# Altium integrated library TI_Logic_Flip-Flop,Latch,Register.IntLib: 2598 symbols (part 13 of 122)
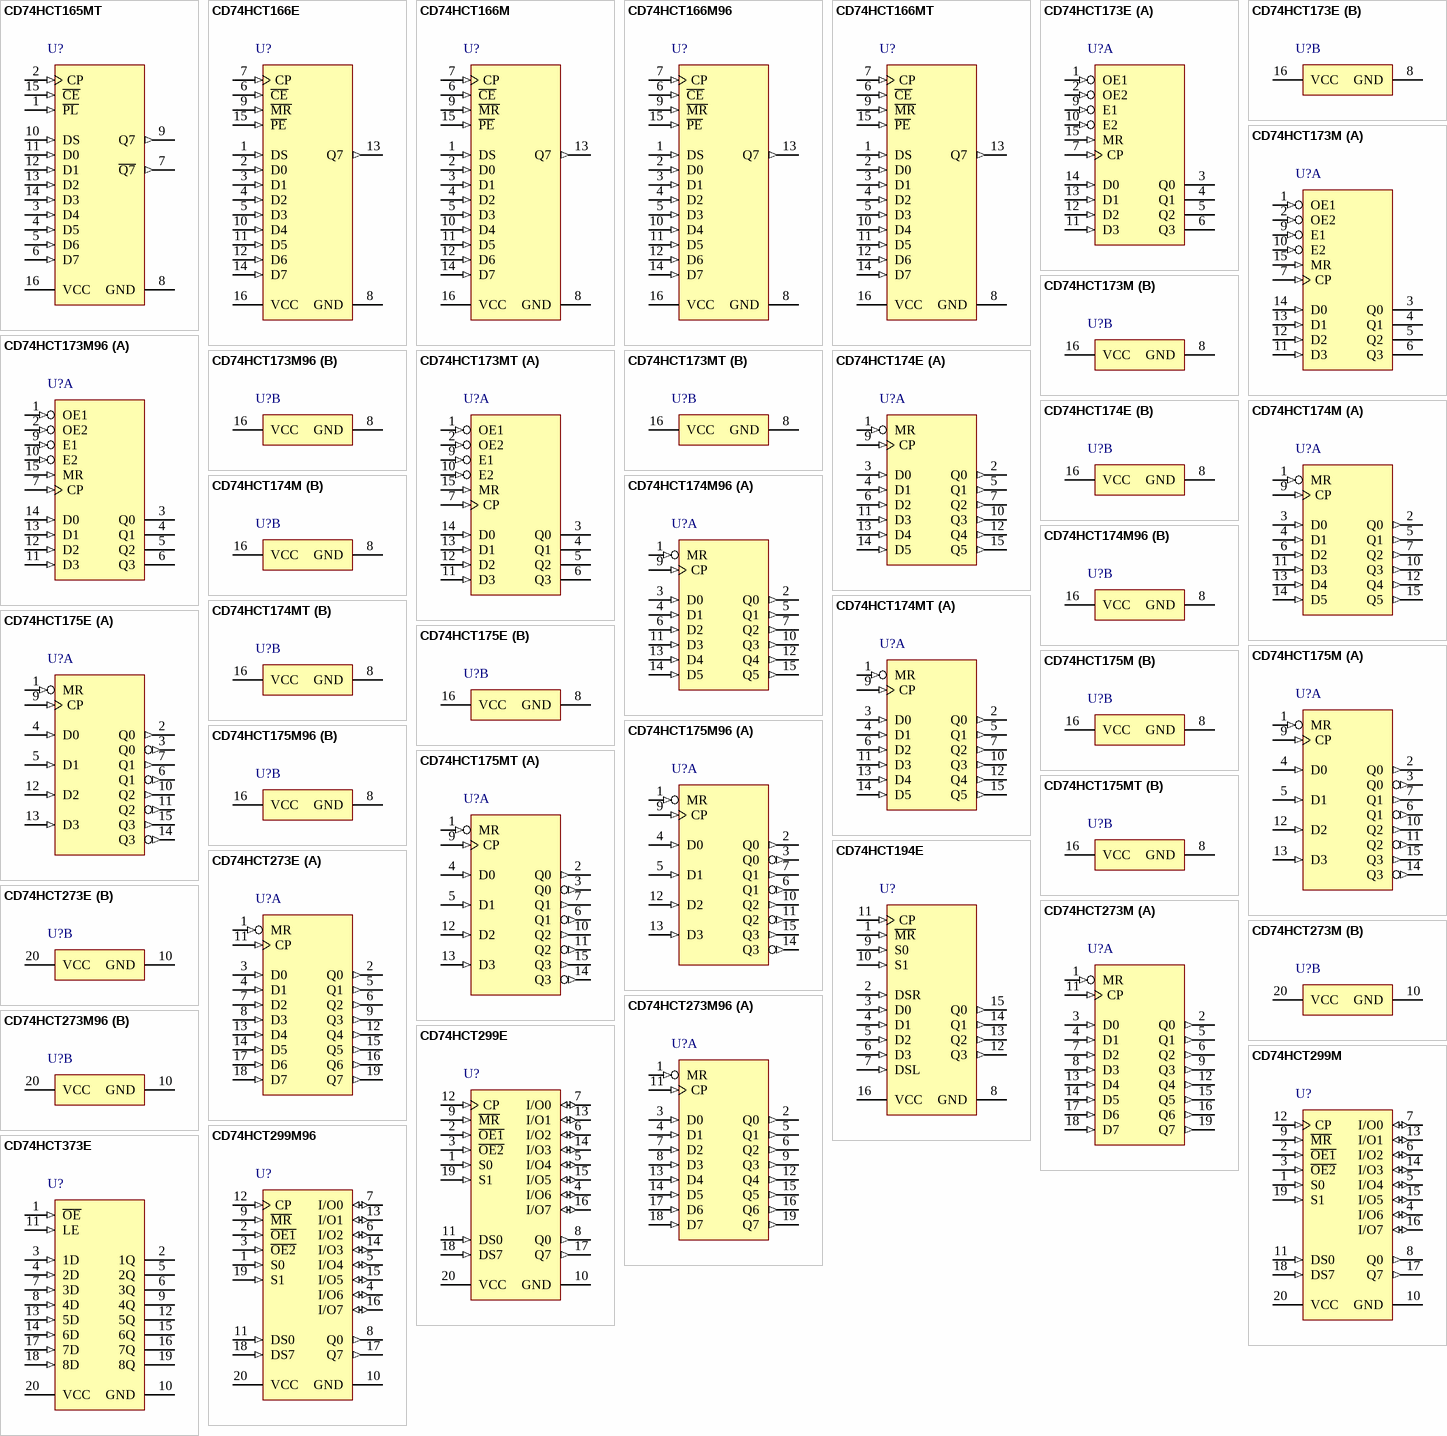
[diagram p151: symbols CD74HCT165MT to CD74HCT373E]

## CD74HCT175E
designator U?
High Speed CMOS Logic Quad D-Type Flip-Flop with Reset, N0016A, TUBE; Generic Part Number: CD74HCT175; Manufacturer: Texas Instruments; PartNumber: CD74HCT175E; VCC(Min)(V): 4.5; VCC(Max)(V): 5.5; ICC @ Nom Voltage(Max)(mA): 0.08; Input Type: TTL; Bits(#): 4; F @ Nom Voltage(Max)(Mhz): 25; Rating: Catalog; Technology Family: HCT; Voltage(Nom)(V): 5; Schmitt Trigger: No; Output Drive (IOL/IOH)(Max)(mA): 4/-4; Output Logic: Inverted,Non-inverted; tpd @ Nom Voltage(Max)(ns): 41; DatasheetVersion: SCHS160C; PackageReference: N0016A; Supplier 1: Digi-Key; Supplier Part Number 1: 296-2101-5-ND; Supplier 2: Farnell; Supplier Part Number 2: 1105984; Supplier 3: Newark; Supplier Part Number 3: 60K5150; Supplier 4: Mouser; Supplier Part Number 4: 595-CD74HCT175E; Output Type: CMOS; Operating Temperature Range(C): -55 to 125; 3-State Output: No; Code_JEDEC: MS-001; ComponentLink1Description: Manufacturer URL; ComponentLink1URL: http://www.ti.com/; ComponentLink2Description: Datasheet; ComponentLink2URL: http://www.ti.com/lit/ds/symlink/cd74hct175.pdf; ComponentLink3Description: Package Specification; ComponentLink3URL: http://www.ti.com/lit/ml/mpdi002c/mpdi002c.pdf
footprint N0016A (DIP, 16-Leads, Body 19.7x6.6mm, Pitch 2.54mm)
part A pins: 1 MR (in), 2 Q0 (out), 3 Q0 (out), 4 D0 (in), 5 D1 (in), 6 Q1 (out), 7 Q1 (out), 9 CP (in), 10 Q2 (out), 11 Q2 (out), 12 D2 (in), 13 D3 (in), 14 Q3 (out), 15 Q3 (out)
part B pins: 8 GND (power), 16 VCC (power)

## CD74HCT175M
designator U?
High Speed CMOS Logic Quad D-Type Flip-Flop with Reset, D0016A, TUBE; Generic Part Number: CD74HCT175; Manufacturer: Texas Instruments; PartNumber: CD74HCT175M; VCC(Min)(V): 4.5; VCC(Max)(V): 5.5; ICC @ Nom Voltage(Max)(mA): 0.08; Input Type: TTL; Bits(#): 4; F @ Nom Voltage(Max)(Mhz): 25; Rating: Catalog; Technology Family: HCT; Voltage(Nom)(V): 5; Schmitt Trigger: No; Output Drive (IOL/IOH)(Max)(mA): 4/-4; Output Logic: Inverted,Non-inverted; tpd @ Nom Voltage(Max)(ns): 41; DatasheetVersion: SCHS160C; PackageReference: D0016A; Supplier 1: Digi-Key; Supplier Part Number 1: 296-26020-5-ND; Supplier 2: Newark; Supplier Part Number 2: 66F5433; Supplier 3: Mouser; Supplier Part Number 3: 595-CD74HCT175M; Output Type: CMOS; Operating Temperature Range(C): -55 to 125; 3-State Output: No; Code_JEDEC: MS-012 variation AC; ComponentLink1Description: Manufacturer URL; ComponentLink1URL: http://www.ti.com/; ComponentLink2Description: Datasheet; ComponentLink2URL: http://www.ti.com/lit/ds/symlink/cd74hct175.pdf; ComponentLink3Description: Package Specification; ComponentLink3URL: http://www.ti.com/lit/ml/mpds178g/mpds178g.pdf
footprint D0016A_N (SOIC, 16-Leads, Body 10x4mm, Pitch 1.27mm, IPC Medium Density)
footprint D0016A_M (SOIC, 16-Leads, Body 10x4mm, Pitch 1.27mm, IPC Low Density)
footprint D0016A_L (SOIC, 16-Leads, Body 10x4mm, Pitch 1.27mm, IPC High Density)
part A pins: 1 MR (in), 2 Q0 (out), 3 Q0 (out), 4 D0 (in), 5 D1 (in), 6 Q1 (out), 7 Q1 (out), 9 CP (in), 10 Q2 (out), 11 Q2 (out), 12 D2 (in), 13 D3 (in), 14 Q3 (out), 15 Q3 (out)
part B pins: 8 GND (power), 16 VCC (power)

## CD74HCT175M96
designator U?
High Speed CMOS Logic Quad D-Type Flip-Flop with Reset, D0016A, LARGE T&R; Generic Part Number: CD74HCT175; Manufacturer: Texas Instruments; PartNumber: CD74HCT175M96; VCC(Min)(V): 4.5; VCC(Max)(V): 5.5; ICC @ Nom Voltage(Max)(mA): 0.08; Input Type: TTL; Bits(#): 4; F @ Nom Voltage(Max)(Mhz): 25; Rating: Catalog; Technology Family: HCT; Voltage(Nom)(V): 5; Schmitt Trigger: No; Output Drive (IOL/IOH)(Max)(mA): 4/-4; Output Logic: Inverted,Non-inverted; tpd @ Nom Voltage(Max)(ns): 41; DatasheetVersion: SCHS160C; PackageReference: D0016A; Supplier 1: Digi-Key; Supplier Part Number 1: 296-12837-2-ND; Supplier 2: Digi-Key; Supplier Part Number 2: 296-12837-1-ND; Supplier 3: Digi-Key; Supplier Part Number 3: 296-12837-6-ND; Supplier 4: Mouser; Supplier Part Number 4: 595-CD74HCT175M96; Output Type: CMOS; Operating Temperature Range(C): -55 to 125; 3-State Output: No; Code_JEDEC: MS-012 variation AC; ComponentLink1Description: Manufacturer URL; ComponentLink1URL: http://www.ti.com/; ComponentLink2Description: Datasheet; ComponentLink2URL: http://www.ti.com/lit/ds/symlink/cd74hct175.pdf; ComponentLink3Description: Package Specification; ComponentLink3URL: http://www.ti.com/lit/ml/mpds178g/mpds178g.pdf
footprint D0016A_N (SOIC, 16-Leads, Body 10x4mm, Pitch 1.27mm, IPC Medium Density)
footprint D0016A_M (SOIC, 16-Leads, Body 10x4mm, Pitch 1.27mm, IPC Low Density)
footprint D0016A_L (SOIC, 16-Leads, Body 10x4mm, Pitch 1.27mm, IPC High Density)
part A pins: 1 MR (in), 2 Q0 (out), 3 Q0 (out), 4 D0 (in), 5 D1 (in), 6 Q1 (out), 7 Q1 (out), 9 CP (in), 10 Q2 (out), 11 Q2 (out), 12 D2 (in), 13 D3 (in), 14 Q3 (out), 15 Q3 (out)
part B pins: 8 GND (power), 16 VCC (power)

## CD74HCT175MT
designator U?
High Speed CMOS Logic Quad D-Type Flip-Flop with Reset, D0016A, SMALL T&R; Generic Part Number: CD74HCT175; Manufacturer: Texas Instruments; PartNumber: CD74HCT175MT; VCC(Min)(V): 4.5; VCC(Max)(V): 5.5; ICC @ Nom Voltage(Max)(mA): 0.08; Input Type: TTL; Bits(#): 4; F @ Nom Voltage(Max)(Mhz): 25; Rating: Catalog; Technology Family: HCT; Voltage(Nom)(V): 5; Schmitt Trigger: No; Output Drive (IOL/IOH)(Max)(mA): 4/-4; Output Logic: Inverted,Non-inverted; tpd @ Nom Voltage(Max)(ns): 41; DatasheetVersion: SCHS160C; PackageReference: D0016A; Supplier 1: Digi-Key; Supplier Part Number 1: CD74HCT175MT-ND; Supplier 2: Farnell; Supplier Part Number 2: 2406867; Supplier 3: Newark; Supplier Part Number 3: 45Y4618; Supplier 4: Mouser; Supplier Part Number 4: 595-CD74HCT175MT; Output Type: CMOS; Operating Temperature Range(C): -55 to 125; 3-State Output: No; Code_JEDEC: MS-012 variation AC; ComponentLink1Description: Manufacturer URL; ComponentLink1URL: http://www.ti.com/; ComponentLink2Description: Datasheet; ComponentLink2URL: http://www.ti.com/lit/ds/symlink/cd74hct175.pdf; ComponentLink3Description: Package Specification; ComponentLink3URL: http://www.ti.com/lit/ml/mpds178g/mpds178g.pdf
footprint D0016A_N (SOIC, 16-Leads, Body 10x4mm, Pitch 1.27mm, IPC Medium Density)
footprint D0016A_M (SOIC, 16-Leads, Body 10x4mm, Pitch 1.27mm, IPC Low Density)
footprint D0016A_L (SOIC, 16-Leads, Body 10x4mm, Pitch 1.27mm, IPC High Density)
part A pins: 1 MR (in), 2 Q0 (out), 3 Q0 (out), 4 D0 (in), 5 D1 (in), 6 Q1 (out), 7 Q1 (out), 9 CP (in), 10 Q2 (out), 11 Q2 (out), 12 D2 (in), 13 D3 (in), 14 Q3 (out), 15 Q3 (out)
part B pins: 8 GND (power), 16 VCC (power)

## CD74HCT194E
designator U?
High Speed CMOS Logic 4-Bit Bidirectional Universal Shift Register, N0016A, TUBE; Generic Part Number: CD74HCT194; Manufacturer: Texas Instruments; PartNumber: CD74HCT194E; Technology Family: HCT; VCC(Min)(V): 4.5; VCC(Max)(V): 5.5; Voltage(Nom)(V): 5; F @ Nom Voltage(Max)(Mhz): 25; ICC @ Nom Voltage(Max)(mA): 0.08; tpd @ Nom Voltage(Max)(ns): 46; Output Drive (IOL/IOH)(Max)(mA): 4/-4; Input Type: TTL; 3-State Output: No; Rating: Catalog; Bits: 8; DatasheetVersion: SCHS164G; PackageReference: N0016A; Output Type: CMOS; Operating Temperature Range(C): -55 to 125; Code_JEDEC: MS-001; ComponentLink1Description: Manufacturer URL; ComponentLink1URL: http://www.ti.com/; ComponentLink2Description: Datasheet; ComponentLink2URL: http://www.ti.com/lit/ds/symlink/cd74hct194.pdf; ComponentLink3Description: Package Specification; ComponentLink3URL: http://www.ti.com/lit/ml/mpdi002c/mpdi002c.pdf
footprint N0016A (DIP, 16-Leads, Body 19.7x6.6mm, Pitch 2.54mm)
pins: 1 ~{MR} (in), 2 DSR (in), 3 D0 (in), 4 D1 (in), 5 D2 (in), 6 D3 (in), 7 DSL (in), 8 GND (power), 9 S0 (in), 10 S1 (in), 11 CP (in), 12 Q3 (out), 13 Q2 (out), 14 Q1 (out), 15 Q0 (out), 16 VCC (power)

## CD74HCT273E
designator U?
High Speed CMOS Logic Octal D-Type Flip-Flop with Reset, N0020A, TUBE; Generic Part Number: CD74HCT273; Manufacturer: Texas Instruments; PartNumber: CD74HCT273E; VCC(Min)(V): 4.5; VCC(Max)(V): 5.5; ICC @ Nom Voltage(Max)(mA): 0.08; Input Type: TTL; Bits(#): 8; F @ Nom Voltage(Max)(Mhz): 25; Rating: Catalog; Technology Family: HCT; Voltage(Nom)(V): 5; Schmitt Trigger: No; Output Drive (IOL/IOH)(Max)(mA): 4/-4; Output Logic: Non-inverted; tpd @ Nom Voltage(Max)(ns): 38; DatasheetVersion: SCHS174B; PackageReference: N0020A; Supplier 1: Digi-Key; Supplier Part Number 1: 296-2110-5-ND; Supplier 2: Farnell; Supplier Part Number 2: 1105987; Supplier 3: Newark; Supplier Part Number 3: 25M8601; Supplier 4: Mouser; Supplier Part Number 4: 595-CD74HCT273E; Output Type: CMOS; Operating Temperature Range(C): -55 to 125; 3-State Output: No; Code_JEDEC: MS-001; ComponentLink1Description: Manufacturer URL; ComponentLink1URL: http://www.ti.com/; ComponentLink2Description: Datasheet; ComponentLink2URL: http://www.ti.com/lit/ds/symlink/cd74hct273.pdf; ComponentLink3Description: Package Specification; ComponentLink3URL: http://www.ti.com/lit/ml/mpdi002c/mpdi002c.pdf
footprint N0020A (DIP, 20-Leads, Body 26.9x6.6mm, Pitch 2.54mm)
part A pins: 1 MR (in), 2 Q0 (out), 3 D0 (in), 4 D1 (in), 5 Q1 (out), 6 Q2 (out), 7 D2 (in), 8 D3 (in), 9 Q3 (out), 11 CP (in), 12 Q4 (out), 13 D4 (in), 14 D5 (in), 15 Q5 (out), 16 Q6 (out), 17 D6 (in), 18 D7 (in), 19 Q7 (out)
part B pins: 10 GND (power), 20 VCC (power)

## CD74HCT273M
designator U?
High Speed CMOS Logic Octal D-Type Flip-Flop with Reset, DW0020A, TUBE; Generic Part Number: CD74HCT273; Manufacturer: Texas Instruments; PartNumber: CD74HCT273M; VCC(Min)(V): 4.5; VCC(Max)(V): 5.5; ICC @ Nom Voltage(Max)(mA): 0.08; Input Type: TTL; Bits(#): 8; F @ Nom Voltage(Max)(Mhz): 25; Rating: Catalog; Technology Family: HCT; Voltage(Nom)(V): 5; Schmitt Trigger: No; Output Drive (IOL/IOH)(Max)(mA): 4/-4; Output Logic: Non-inverted; tpd @ Nom Voltage(Max)(ns): 38; DatasheetVersion: SCHS174B; PackageReference: DW0020A; Supplier 1: Digi-Key; Supplier Part Number 1: 296-12841-5-ND; Supplier 2: Farnell; Supplier Part Number 2: 1103142; Supplier 3: Newark; Supplier Part Number 3: 66F5474; Supplier 4: Mouser; Supplier Part Number 4: 595-CD74HCT273M; Output Type: CMOS; Operating Temperature Range(C): -55 to 125; 3-State Output: No; Code_JEDEC: MS-013; ComponentLink1Description: Manufacturer URL; ComponentLink1URL: http://www.ti.com/; ComponentLink2Description: Datasheet; ComponentLink2URL: http://www.ti.com/lit/ds/symlink/cd74hct273.pdf; ComponentLink3Description: Package Specification; ComponentLink3URL: http://www.ti.com/lit/ml/mpds173a/mpds173a.pdf
footprint DW0020A_N (SOIC, 20-Leads, Body 13x7.6mm, Pitch 1.27mm, IPC Medium Density)
footprint DW0020A_M (SOIC, 20-Leads, Body 13x7.6mm, Pitch 1.27mm, IPC Low Density)
footprint DW0020A_L (SOIC, 20-Leads, Body 13x7.6mm, Pitch 1.27mm, IPC High Density)
part A pins: 1 MR (in), 2 Q0 (out), 3 D0 (in), 4 D1 (in), 5 Q1 (out), 6 Q2 (out), 7 D2 (in), 8 D3 (in), 9 Q3 (out), 11 CP (in), 12 Q4 (out), 13 D4 (in), 14 D5 (in), 15 Q5 (out), 16 Q6 (out), 17 D6 (in), 18 D7 (in), 19 Q7 (out)
part B pins: 10 GND (power), 20 VCC (power)

## CD74HCT273M96
designator U?
High Speed CMOS Logic Octal D-Type Flip-Flop with Reset, DW0020A, LARGE T&R; Generic Part Number: CD74HCT273; Manufacturer: Texas Instruments; PartNumber: CD74HCT273M96; VCC(Min)(V): 4.5; VCC(Max)(V): 5.5; ICC @ Nom Voltage(Max)(mA): 0.08; Input Type: TTL; Bits(#): 8; F @ Nom Voltage(Max)(Mhz): 25; Rating: Catalog; Technology Family: HCT; Voltage(Nom)(V): 5; Schmitt Trigger: No; Output Drive (IOL/IOH)(Max)(mA): 4/-4; Output Logic: Non-inverted; tpd @ Nom Voltage(Max)(ns): 38; DatasheetVersion: SCHS174B; PackageReference: DW0020A; Supplier 1: Digi-Key; Supplier Part Number 1: 296-14554-2-ND; Supplier 2: Digi-Key; Supplier Part Number 2: 296-14554-1-ND; Supplier 3: Digi-Key; Supplier Part Number 3: 296-14554-6-ND; Supplier 4: Newark; Supplier Part Number 4: 05B6047; Supplier 5: Mouser; Supplier Part Number 5: 595-CD74HCT273M96; Output Type: CMOS; Operating Temperature Range(C): -55 to 125; 3-State Output: No; Code_JEDEC: MS-013; ComponentLink1Description: Manufacturer URL; ComponentLink1URL: http://www.ti.com/; ComponentLink2Description: Datasheet; ComponentLink2URL: http://www.ti.com/lit/ds/symlink/cd74hct273.pdf; ComponentLink3Description: Package Specification; ComponentLink3URL: http://www.ti.com/lit/ml/mpds173a/mpds173a.pdf
footprint DW0020A_N (SOIC, 20-Leads, Body 13x7.6mm, Pitch 1.27mm, IPC Medium Density)
footprint DW0020A_M (SOIC, 20-Leads, Body 13x7.6mm, Pitch 1.27mm, IPC Low Density)
footprint DW0020A_L (SOIC, 20-Leads, Body 13x7.6mm, Pitch 1.27mm, IPC High Density)
part A pins: 1 MR (in), 2 Q0 (out), 3 D0 (in), 4 D1 (in), 5 Q1 (out), 6 Q2 (out), 7 D2 (in), 8 D3 (in), 9 Q3 (out), 11 CP (in), 12 Q4 (out), 13 D4 (in), 14 D5 (in), 15 Q5 (out), 16 Q6 (out), 17 D6 (in), 18 D7 (in), 19 Q7 (out)
part B pins: 10 GND (power), 20 VCC (power)

## CD74HCT299E
designator U?
High Speed CMOS Logic 8-Bit Universal Shift Register with 3-State Outputs, N0020A, TUBE; Generic Part Number: CD74HCT299; Manufacturer: Texas Instruments; PartNumber: CD74HCT299E; Technology Family: HCT; VCC(Min)(V): 4.5; VCC(Max)(V): 5.5; Voltage(Nom)(V): 5; F @ Nom Voltage(Max)(Mhz): 25; ICC @ Nom Voltage(Max)(mA): 0.08; tpd @ Nom Voltage(Max)(ns): 56; Output Drive (IOL/IOH)(Max)(mA): 4/-4; Input Type: TTL; 3-State Output: Yes; Rating: Catalog; Bits: 16; DatasheetVersion: SCHS178C; PackageReference: N0020A; Output Type: CMOS; Operating Temperature Range(C): -55 to 125; Code_JEDEC: MS-001; ComponentLink1Description: Manufacturer URL; ComponentLink1URL: http://www.ti.com/; ComponentLink2Description: Datasheet; ComponentLink2URL: http://www.ti.com/lit/ds/symlink/cd74hct299.pdf; ComponentLink3Description: Package Specification; ComponentLink3URL: http://www.ti.com/lit/ml/mpdi002c/mpdi002c.pdf
footprint N0020A (DIP, 20-Leads, Body 26.9x6.6mm, Pitch 2.54mm)
pins: 1 S0 (in), 2 ~{OE1} (in), 3 ~{OE2} (in), 4 I/O6 (io), 5 I/O4 (io), 6 I/O2 (io), 7 I/O0 (io), 8 Q0 (out), 9 ~{MR} (in), 10 GND (power), 11 DS0 (in), 12 CP (in), 13 I/O1 (io), 14 I/O3 (io), 15 I/O5 (io), 16 I/O7 (io), 17 Q7 (out), 18 DS7 (in), 19 S1 (in), 20 VCC (power)

## CD74HCT299M
designator U?
High Speed CMOS Logic 8-Bit Universal Shift Register with 3-State Outputs, DW0020A, TUBE; Generic Part Number: CD74HCT299; Manufacturer: Texas Instruments; PartNumber: CD74HCT299M; Technology Family: HCT; VCC(Min)(V): 4.5; VCC(Max)(V): 5.5; Voltage(Nom)(V): 5; F @ Nom Voltage(Max)(Mhz): 25; ICC @ Nom Voltage(Max)(mA): 0.08; tpd @ Nom Voltage(Max)(ns): 56; Output Drive (IOL/IOH)(Max)(mA): 4/-4; Input Type: TTL; 3-State Output: Yes; Rating: Catalog; DatasheetVersion: SCHS178C; PackageReference: DW0020A; Output Type: CMOS; Operating Temperature Range(C): -55 to 125; Code_JEDEC: MS-013; ComponentLink1Description: Manufacturer URL; ComponentLink1URL: http://www.ti.com/; ComponentLink2Description: Datasheet; ComponentLink2URL: http://www.ti.com/lit/ds/symlink/cd74hct299.pdf; ComponentLink3Description: Package Specification; ComponentLink3URL: http://www.ti.com/lit/ml/mpds173a/mpds173a.pdf
footprint DW0020A_N (SOIC, 20-Leads, Body 13x7.6mm, Pitch 1.27mm, IPC Medium Density)
footprint DW0020A_M (SOIC, 20-Leads, Body 13x7.6mm, Pitch 1.27mm, IPC Low Density)
footprint DW0020A_L (SOIC, 20-Leads, Body 13x7.6mm, Pitch 1.27mm, IPC High Density)
pins: 1 S0 (in), 2 ~{OE1} (in), 3 ~{OE2} (in), 4 I/O6 (io), 5 I/O4 (io), 6 I/O2 (io), 7 I/O0 (io), 8 Q0 (out), 9 ~{MR} (in), 10 GND (power), 11 DS0 (in), 12 CP (in), 13 I/O1 (io), 14 I/O3 (io), 15 I/O5 (io), 16 I/O7 (io), 17 Q7 (out), 18 DS7 (in), 19 S1 (in), 20 VCC (power)

## CD74HCT299M96
designator U?
High Speed CMOS Logic 8-Bit Universal Shift Register with 3-State Outputs, DW0020A, LARGE T&R; Generic Part Number: CD74HCT299; Manufacturer: Texas Instruments; PartNumber: CD74HCT299M96; Technology Family: HCT; VCC(Min)(V): 4.5; VCC(Max)(V): 5.5; Voltage(Nom)(V): 5; F @ Nom Voltage(Max)(Mhz): 25; ICC @ Nom Voltage(Max)(mA): 0.08; tpd @ Nom Voltage(Max)(ns): 56; Output Drive (IOL/IOH)(Max)(mA): 4/-4; Input Type: TTL; 3-State Output: Yes; Rating: Catalog; DatasheetVersion: SCHS178C; PackageReference: DW0020A; Output Type: CMOS; Operating Temperature Range(C): -55 to 125; Code_JEDEC: MS-013; ComponentLink1Description: Manufacturer URL; ComponentLink1URL: http://www.ti.com/; ComponentLink2Description: Datasheet; ComponentLink2URL: http://www.ti.com/lit/ds/symlink/cd74hct299.pdf; ComponentLink3Description: Package Specification; ComponentLink3URL: http://www.ti.com/lit/ml/mpds173a/mpds173a.pdf
footprint DW0020A_N (SOIC, 20-Leads, Body 13x7.6mm, Pitch 1.27mm, IPC Medium Density)
footprint DW0020A_M (SOIC, 20-Leads, Body 13x7.6mm, Pitch 1.27mm, IPC Low Density)
footprint DW0020A_L (SOIC, 20-Leads, Body 13x7.6mm, Pitch 1.27mm, IPC High Density)
pins: 1 S0 (in), 2 ~{OE1} (in), 3 ~{OE2} (in), 4 I/O6 (io), 5 I/O4 (io), 6 I/O2 (io), 7 I/O0 (io), 8 Q0 (out), 9 ~{MR} (in), 10 GND (power), 11 DS0 (in), 12 CP (in), 13 I/O1 (io), 14 I/O3 (io), 15 I/O5 (io), 16 I/O7 (io), 17 Q7 (out), 18 DS7 (in), 19 S1 (in), 20 VCC (power)

## CD74HCT373E
designator U?
High Speed CMOS Logic Octal Transparent Latches with 3-State Outputs, N0020A, TUBE; Generic Part Number: CD74HCT373; Manufacturer: Texas Instruments; PartNumber: CD74HCT373E; VCC(Min)(V): 4.5; VCC(Max)(V): 5.5; ICC @ Nom Voltage(Max)(mA): 0.08; Input Type: TTL; Bits(#): 8; F @ Nom Voltage(Max)(Mhz): 25; Rating: Catalog; Technology Family: HCT; Voltage(Nom)(V): 5; Schmitt Trigger: No; Output Drive (IOL/IOH)(Max)(mA): 6/-6; Output Logic: Non-inverted; 3-State Output: Yes; tpd @ Nom Voltage(Max)(ns): 40; DatasheetVersion: SCLS453B; PackageReference: N0020A; Supplier 1: Digi-Key; Supplier Part Number 1: 296-2114-5-ND; Supplier 2: Farnell; Supplier Part Number 2: 1105988; Supplier 3: Newark; Supplier Part Number 3: 60K5153; Supplier 4: Mouser; Supplier Part Number 4: 595-CD74HCT373E; Output Type: CMOS; Operating Temperature Range(C): -55 to 125; Code_JEDEC: MS-001; ComponentLink1Description: Manufacturer URL; ComponentLink1URL: http://www.ti.com/; ComponentLink2Description: Datasheet; ComponentLink2URL: http://www.ti.com/lit/ds/symlink/cd74hct373.pdf; ComponentLink3Description: Package Specification; ComponentLink3URL: http://www.ti.com/lit/ml/mpdi002c/mpdi002c.pdf
footprint N0020A (DIP, 20-Leads, Body 26.9x6.6mm, Pitch 2.54mm)
pins: 1 ~{OE} (in) "Output Enable", 2 1Q (hiz) "1Q Output", 3 1D (in) "1D Input", 4 2D (in) "2D Input", 5 2Q (hiz) "2Q Output", 6 3Q (hiz) "3Q Output", 7 3D (in) "3D Input", 8 4D (in) "4D Input", 9 4Q (hiz) "4Q Output", 10 GND (power) "Ground Pin", 11 LE (in) "Latch Enable", 12 5Q (hiz) "5Q Output", 13 5D (in) "5D Input", 14 6D (in) "6D Input", 15 6Q (hiz) "6Q Output", 16 7Q (hiz) "7Q Output", 17 7D (in) "7D Input", 18 8D (in) "8D Input", 19 8Q (hiz) "8Q Output", 20 VCC (power) "Power Pin"

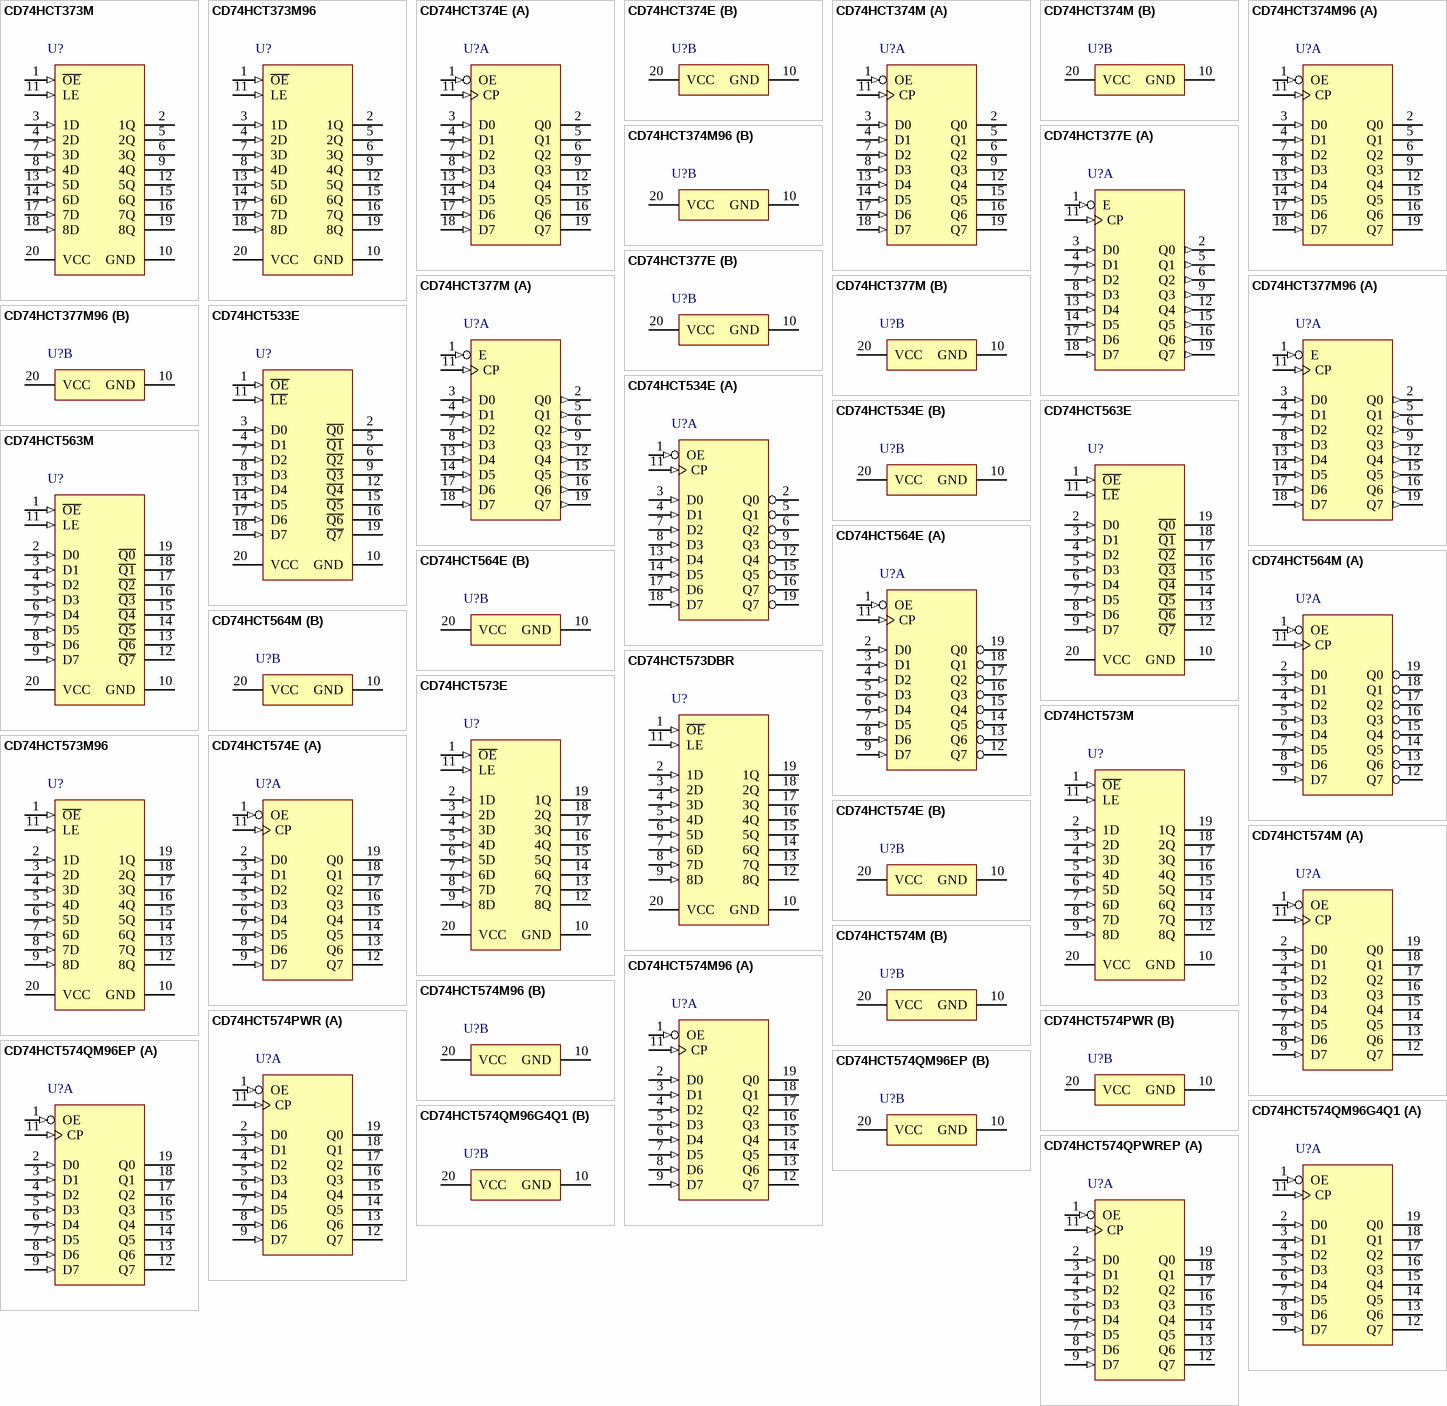
[diagram p18: symbols CD74HCT373M to CD74HCT574QPWREP]

## CD74HCT373M
designator U?
High Speed CMOS Logic Octal Transparent Latches with 3-State Outputs, DW0020A, TUBE; Generic Part Number: CD74HCT373; Manufacturer: Texas Instruments; PartNumber: CD74HCT373M; VCC(Min)(V): 4.5; VCC(Max)(V): 5.5; ICC @ Nom Voltage(Max)(mA): 0.08; Input Type: TTL; Bits(#): 8; F @ Nom Voltage(Max)(Mhz): 25; Rating: Catalog; Technology Family: HCT; Voltage(Nom)(V): 5; Schmitt Trigger: No; Output Drive (IOL/IOH)(Max)(mA): 6/-6; Output Logic: Non-inverted; 3-State Output: Yes; tpd @ Nom Voltage(Max)(ns): 40; DatasheetVersion: SCLS453B; PackageReference: DW0020A; Supplier 1: Digi-Key; Supplier Part Number 1: 296-12843-5-ND; Supplier 2: Farnell; Supplier Part Number 2: 1103144; Supplier 3: Newark; Supplier Part Number 3: 25M8606; Supplier 4: Mouser; Supplier Part Number 4: 595-CD74HCT373M; Output Type: CMOS; Operating Temperature Range(C): -55 to 125; Code_JEDEC: MS-013; ComponentLink1Description: Manufacturer URL; ComponentLink1URL: http://www.ti.com/; ComponentLink2Description: Datasheet; ComponentLink2URL: http://www.ti.com/lit/ds/symlink/cd74hct373.pdf; ComponentLink3Description: Package Specification; ComponentLink3URL: http://www.ti.com/lit/ml/mpds173a/mpds173a.pdf
footprint DW0020A_N (SOIC, 20-Leads, Body 13x7.6mm, Pitch 1.27mm, IPC Medium Density)
footprint DW0020A_M (SOIC, 20-Leads, Body 13x7.6mm, Pitch 1.27mm, IPC Low Density)
footprint DW0020A_L (SOIC, 20-Leads, Body 13x7.6mm, Pitch 1.27mm, IPC High Density)
pins: 1 ~{OE} (in) "Output Enable", 2 1Q (hiz) "1Q Output", 3 1D (in) "1D Input", 4 2D (in) "2D Input", 5 2Q (hiz) "2Q Output", 6 3Q (hiz) "3Q Output", 7 3D (in) "3D Input", 8 4D (in) "4D Input", 9 4Q (hiz) "4Q Output", 10 GND (power) "Ground Pin", 11 LE (in) "Latch Enable", 12 5Q (hiz) "5Q Output", 13 5D (in) "5D Input", 14 6D (in) "6D Input", 15 6Q (hiz) "6Q Output", 16 7Q (hiz) "7Q Output", 17 7D (in) "7D Input", 18 8D (in) "8D Input", 19 8Q (hiz) "8Q Output", 20 VCC (power) "Power Pin"

## CD74HCT373M96
designator U?
High Speed CMOS Logic Octal Transparent Latches with 3-State Outputs, DW0020A, LARGE T&R; Generic Part Number: CD74HCT373; Manufacturer: Texas Instruments; PartNumber: CD74HCT373M96; VCC(Min)(V): 4.5; VCC(Max)(V): 5.5; ICC @ Nom Voltage(Max)(mA): 0.08; Input Type: TTL; Bits(#): 8; F @ Nom Voltage(Max)(Mhz): 25; Rating: Catalog; Technology Family: HCT; Voltage(Nom)(V): 5; Schmitt Trigger: No; Output Drive (IOL/IOH)(Max)(mA): 6/-6; Output Logic: Non-inverted; 3-State Output: Yes; tpd @ Nom Voltage(Max)(ns): 40; DatasheetVersion: SCLS453B; PackageReference: DW0020A; Supplier 1: Digi-Key; Supplier Part Number 1: 296-31614-2-ND; Supplier 2: Digi-Key; Supplier Part Number 2: 296-31614-1-ND; Supplier 3: Digi-Key; Supplier Part Number 3: 296-31614-6-ND; Supplier 4: Mouser; Supplier Part Number 4: 595-CD74HCT373M96; Output Type: CMOS; Operating Temperature Range(C): -55 to 125; Code_JEDEC: MS-013; ComponentLink1Description: Manufacturer URL; ComponentLink1URL: http://www.ti.com/; ComponentLink2Description: Datasheet; ComponentLink2URL: http://www.ti.com/lit/ds/symlink/cd74hct373.pdf; ComponentLink3Description: Package Specification; ComponentLink3URL: http://www.ti.com/lit/ml/mpds173a/mpds173a.pdf
footprint DW0020A_N (SOIC, 20-Leads, Body 13x7.6mm, Pitch 1.27mm, IPC Medium Density)
footprint DW0020A_M (SOIC, 20-Leads, Body 13x7.6mm, Pitch 1.27mm, IPC Low Density)
footprint DW0020A_L (SOIC, 20-Leads, Body 13x7.6mm, Pitch 1.27mm, IPC High Density)
pins: 1 ~{OE} (in) "Output Enable", 2 1Q (hiz) "1Q Output", 3 1D (in) "1D Input", 4 2D (in) "2D Input", 5 2Q (hiz) "2Q Output", 6 3Q (hiz) "3Q Output", 7 3D (in) "3D Input", 8 4D (in) "4D Input", 9 4Q (hiz) "4Q Output", 10 GND (power) "Ground Pin", 11 LE (in) "Latch Enable", 12 5Q (hiz) "5Q Output", 13 5D (in) "5D Input", 14 6D (in) "6D Input", 15 6Q (hiz) "6Q Output", 16 7Q (hiz) "7Q Output", 17 7D (in) "7D Input", 18 8D (in) "8D Input", 19 8Q (hiz) "8Q Output", 20 VCC (power) "Power Pin"

## CD74HCT374E
designator U?
High Speed CMOS Logic Octal Positive-Edge Triggered D-Type Flip-Flops with 3-State Outputs, N0020A, TUBE; Generic Part Number: CD74HCT374; Manufacturer: Texas Instruments; PartNumber: CD74HCT374E; VCC(Min)(V): 4.5; VCC(Max)(V): 5.5; ICC @ Nom Voltage(Max)(mA): 0.08; Input Type: TTL; Bits(#): 8; F @ Nom Voltage(Max)(Mhz): 25; Rating: Catalog; Technology Family: HCT; Voltage(Nom)(V): 5; Schmitt Trigger: No; Output Drive (IOL/IOH)(Max)(mA): 6/-6; Output Logic: Non-inverted; 3-State Output: Yes; tpd @ Nom Voltage(Max)(ns): 41; DatasheetVersion: SCHS183C; PackageReference: N0020A; Supplier 1: Digi-Key; Supplier Part Number 1: 296-2115-5-ND; Supplier 2: Newark; Supplier Part Number 2: 06F2956; Supplier 3: Mouser; Supplier Part Number 3: 595-CD74HCT374E; Output Type: CMOS; Operating Temperature Range(C): -55 to 125; Code_JEDEC: MS-001; ComponentLink1Description: Manufacturer URL; ComponentLink1URL: http://www.ti.com/; ComponentLink2Description: Datasheet; ComponentLink2URL: http://www.ti.com/lit/ds/symlink/cd74hct374.pdf; ComponentLink3Description: Package Specification; ComponentLink3URL: http://www.ti.com/lit/ml/mpdi002c/mpdi002c.pdf
footprint N0020A (DIP, 20-Leads, Body 26.9x6.6mm, Pitch 2.54mm)
part A pins: 1 OE (in), 2 Q0 (hiz), 3 D0 (in), 4 D1 (in), 5 Q1 (hiz), 6 Q2 (hiz), 7 D2 (in), 8 D3 (in), 9 Q3 (hiz), 11 CP (in), 12 Q4 (hiz), 13 D4 (in), 14 D5 (in), 15 Q5 (hiz), 16 Q6 (hiz), 17 D6 (in), 18 D7 (in), 19 Q7 (hiz)
part B pins: 10 GND (power), 20 VCC (power)

## CD74HCT374M
designator U?
High Speed CMOS Logic Octal Positive-Edge Triggered D-Type Flip-Flops with 3-State Outputs, DW0020A, TUBE; Generic Part Number: CD74HCT374; Manufacturer: Texas Instruments; PartNumber: CD74HCT374M; VCC(Min)(V): 4.5; VCC(Max)(V): 5.5; ICC @ Nom Voltage(Max)(mA): 0.08; Input Type: TTL; Bits(#): 8; F @ Nom Voltage(Max)(Mhz): 25; Rating: Catalog; Technology Family: HCT; Voltage(Nom)(V): 5; Schmitt Trigger: No; Output Drive (IOL/IOH)(Max)(mA): 6/-6; Output Logic: Non-inverted; 3-State Output: Yes; tpd @ Nom Voltage(Max)(ns): 41; DatasheetVersion: SCHS183C; PackageReference: DW0020A; Supplier 1: Digi-Key; Supplier Part Number 1: 296-33151-5-ND; Supplier 2: Farnell; Supplier Part Number 2: 2499853; Supplier 3: Newark; Supplier Part Number 3: 68Y7637; Supplier 4: Mouser; Supplier Part Number 4: 595-CD74HCT374M; Output Type: CMOS; Operating Temperature Range(C): -55 to 125; Code_JEDEC: MS-013; ComponentLink1Description: Manufacturer URL; ComponentLink1URL: http://www.ti.com/; ComponentLink2Description: Datasheet; ComponentLink2URL: http://www.ti.com/lit/ds/symlink/cd74hct374.pdf; ComponentLink3Description: Package Specification; ComponentLink3URL: http://www.ti.com/lit/ml/mpds173a/mpds173a.pdf
footprint DW0020A_N (SOIC, 20-Leads, Body 13x7.6mm, Pitch 1.27mm, IPC Medium Density)
footprint DW0020A_M (SOIC, 20-Leads, Body 13x7.6mm, Pitch 1.27mm, IPC Low Density)
footprint DW0020A_L (SOIC, 20-Leads, Body 13x7.6mm, Pitch 1.27mm, IPC High Density)
part A pins: 1 OE (in), 2 Q0 (hiz), 3 D0 (in), 4 D1 (in), 5 Q1 (hiz), 6 Q2 (hiz), 7 D2 (in), 8 D3 (in), 9 Q3 (hiz), 11 CP (in), 12 Q4 (hiz), 13 D4 (in), 14 D5 (in), 15 Q5 (hiz), 16 Q6 (hiz), 17 D6 (in), 18 D7 (in), 19 Q7 (hiz)
part B pins: 10 GND (power), 20 VCC (power)

## CD74HCT374M96
designator U?
High Speed CMOS Logic Octal Positive-Edge Triggered D-Type Flip-Flops with 3-State Outputs, DW0020A, LARGE T&R; Generic Part Number: CD74HCT374; Manufacturer: Texas Instruments; PartNumber: CD74HCT374M96; VCC(Min)(V): 4.5; VCC(Max)(V): 5.5; ICC @ Nom Voltage(Max)(mA): 0.08; Input Type: TTL; Bits(#): 8; F @ Nom Voltage(Max)(Mhz): 25; Rating: Catalog; Technology Family: HCT; Voltage(Nom)(V): 5; Schmitt Trigger: No; Output Drive (IOL/IOH)(Max)(mA): 6/-6; Output Logic: Non-inverted; 3-State Output: Yes; tpd @ Nom Voltage(Max)(ns): 41; DatasheetVersion: SCHS183C; PackageReference: DW0020A; Supplier 1: Digi-Key; Supplier Part Number 1: 296-9269-2-ND; Supplier 2: Digi-Key; Supplier Part Number 2: 296-9269-1-ND; Supplier 3: Digi-Key; Supplier Part Number 3: 296-9269-6-ND; Supplier 4: Newark; Supplier Part Number 4: 05B6053; Supplier 5: Mouser; Supplier Part Number 5: 595-CD74HCT374M96; Output Type: CMOS; Operating Temperature Range(C): -55 to 125; Code_JEDEC: MS-013; ComponentLink1Description: Manufacturer URL; ComponentLink1URL: http://www.ti.com/; ComponentLink2Description: Datasheet; ComponentLink2URL: http://www.ti.com/lit/ds/symlink/cd74hct374.pdf; ComponentLink3Description: Package Specification; ComponentLink3URL: http://www.ti.com/lit/ml/mpds173a/mpds173a.pdf
footprint DW0020A_N (SOIC, 20-Leads, Body 13x7.6mm, Pitch 1.27mm, IPC Medium Density)
footprint DW0020A_M (SOIC, 20-Leads, Body 13x7.6mm, Pitch 1.27mm, IPC Low Density)
footprint DW0020A_L (SOIC, 20-Leads, Body 13x7.6mm, Pitch 1.27mm, IPC High Density)
part A pins: 1 OE (in), 2 Q0 (hiz), 3 D0 (in), 4 D1 (in), 5 Q1 (hiz), 6 Q2 (hiz), 7 D2 (in), 8 D3 (in), 9 Q3 (hiz), 11 CP (in), 12 Q4 (hiz), 13 D4 (in), 14 D5 (in), 15 Q5 (hiz), 16 Q6 (hiz), 17 D6 (in), 18 D7 (in), 19 Q7 (hiz)
part B pins: 10 GND (power), 20 VCC (power)

## CD74HCT377E
designator U?
High Speed CMOS Logic Octal D-Type Flip-Flop with Data Enable, N0020A, TUBE; Generic Part Number: CD74HCT377; Manufacturer: Texas Instruments; PartNumber: CD74HCT377E; VCC(Min)(V): 4.5; VCC(Max)(V): 5.5; ICC @ Nom Voltage(Max)(mA): 0.08; Input Type: TTL; Bits(#): 8; F @ Nom Voltage(Max)(Mhz): 25; Rating: Catalog; Technology Family: HCT; Voltage(Nom)(V): 5; Schmitt Trigger: No; Output Drive (IOL/IOH)(Max)(mA): 4/-4; Output Logic: Non-inverted; tpd @ Nom Voltage(Max)(ns): 48; DatasheetVersion: SCHS184C; PackageReference: N0020A; Supplier 1: Digi-Key; Supplier Part Number 1: 296-2150-5-ND; Supplier 2: Mouser; Supplier Part Number 2: 595-CD74HCT377E; Output Type: CMOS; Operating Temperature Range(C): -55 to 125; 3-State Output: No; Code_JEDEC: MS-001; ComponentLink1Description: Manufacturer URL; ComponentLink1URL: http://www.ti.com/; ComponentLink2Description: Datasheet; ComponentLink2URL: http://www.ti.com/lit/ds/symlink/cd74hct377.pdf; ComponentLink3Description: Package Specification; ComponentLink3URL: http://www.ti.com/lit/ml/mpdi002c/mpdi002c.pdf
footprint N0020A (DIP, 20-Leads, Body 26.9x6.6mm, Pitch 2.54mm)
part A pins: 1 E (in), 2 Q0 (out), 3 D0 (in), 4 D1 (in), 5 Q1 (out), 6 Q2 (out), 7 D2 (in), 8 D3 (in), 9 Q3 (out), 11 CP (in), 12 Q4 (out), 13 D4 (in), 14 D5 (in), 15 Q5 (out), 16 Q6 (out), 17 D6 (in), 18 D7 (in), 19 Q7 (out)
part B pins: 10 GND (power), 20 VCC (power)

## CD74HCT377M
designator U?
High Speed CMOS Logic Octal D-Type Flip-Flop with Data Enable, DW0020A, TUBE; Generic Part Number: CD74HCT377; Manufacturer: Texas Instruments; PartNumber: CD74HCT377M; VCC(Min)(V): 4.5; VCC(Max)(V): 5.5; ICC @ Nom Voltage(Max)(mA): 0.08; Input Type: TTL; Bits(#): 8; F @ Nom Voltage(Max)(Mhz): 25; Rating: Catalog; Technology Family: HCT; Voltage(Nom)(V): 5; Schmitt Trigger: No; Output Drive (IOL/IOH)(Max)(mA): 4/-4; Output Logic: Non-inverted; tpd @ Nom Voltage(Max)(ns): 48; DatasheetVersion: SCHS184C; PackageReference: DW0020A; Supplier 1: Digi-Key; Supplier Part Number 1: 296-9427-5-ND; Supplier 2: Farnell; Supplier Part Number 2: 1739853; Supplier 3: Mouser; Supplier Part Number 3: 595-CD74HCT377M; Output Type: CMOS; Operating Temperature Range(C): -55 to 125; 3-State Output: No; Code_JEDEC: MS-013; ComponentLink1Description: Manufacturer URL; ComponentLink1URL: http://www.ti.com/; ComponentLink2Description: Datasheet; ComponentLink2URL: http://www.ti.com/lit/ds/symlink/cd74hct377.pdf; ComponentLink3Description: Package Specification; ComponentLink3URL: http://www.ti.com/lit/ml/mpds173a/mpds173a.pdf
footprint DW0020A_N (SOIC, 20-Leads, Body 13x7.6mm, Pitch 1.27mm, IPC Medium Density)
footprint DW0020A_M (SOIC, 20-Leads, Body 13x7.6mm, Pitch 1.27mm, IPC Low Density)
footprint DW0020A_L (SOIC, 20-Leads, Body 13x7.6mm, Pitch 1.27mm, IPC High Density)
part A pins: 1 E (in), 2 Q0 (out), 3 D0 (in), 4 D1 (in), 5 Q1 (out), 6 Q2 (out), 7 D2 (in), 8 D3 (in), 9 Q3 (out), 11 CP (in), 12 Q4 (out), 13 D4 (in), 14 D5 (in), 15 Q5 (out), 16 Q6 (out), 17 D6 (in), 18 D7 (in), 19 Q7 (out)
part B pins: 10 GND (power), 20 VCC (power)

## CD74HCT377M96
designator U?
High Speed CMOS Logic Octal D-Type Flip-Flop with Data Enable, DW0020A, LARGE T&R; Generic Part Number: CD74HCT377; Manufacturer: Texas Instruments; PartNumber: CD74HCT377M96; VCC(Min)(V): 4.5; VCC(Max)(V): 5.5; ICC @ Nom Voltage(Max)(mA): 0.08; Input Type: TTL; Bits(#): 8; F @ Nom Voltage(Max)(Mhz): 25; Rating: Catalog; Technology Family: HCT; Voltage(Nom)(V): 5; Schmitt Trigger: No; Output Drive (IOL/IOH)(Max)(mA): 4/-4; Output Logic: Non-inverted; tpd @ Nom Voltage(Max)(ns): 48; DatasheetVersion: SCHS184C; PackageReference: DW0020A; Supplier 1: Digi-Key; Supplier Part Number 1: 296-38703-2-ND; Supplier 2: Digi-Key; Supplier Part Number 2: 296-38703-1-ND; Supplier 3: Digi-Key; Supplier Part Number 3: 296-38703-6-ND; Supplier 4: Mouser; Supplier Part Number 4: 595-CD74HCT377M96; Output Type: CMOS; Operating Temperature Range(C): -55 to 125; 3-State Output: No; Code_JEDEC: MS-013; ComponentLink1Description: Manufacturer URL; ComponentLink1URL: http://www.ti.com/; ComponentLink2Description: Datasheet; ComponentLink2URL: http://www.ti.com/lit/ds/symlink/cd74hct377.pdf; ComponentLink3Description: Package Specification; ComponentLink3URL: http://www.ti.com/lit/ml/mpds173a/mpds173a.pdf
footprint DW0020A_N (SOIC, 20-Leads, Body 13x7.6mm, Pitch 1.27mm, IPC Medium Density)
footprint DW0020A_M (SOIC, 20-Leads, Body 13x7.6mm, Pitch 1.27mm, IPC Low Density)
footprint DW0020A_L (SOIC, 20-Leads, Body 13x7.6mm, Pitch 1.27mm, IPC High Density)
part A pins: 1 E (in), 2 Q0 (out), 3 D0 (in), 4 D1 (in), 5 Q1 (out), 6 Q2 (out), 7 D2 (in), 8 D3 (in), 9 Q3 (out), 11 CP (in), 12 Q4 (out), 13 D4 (in), 14 D5 (in), 15 Q5 (out), 16 Q6 (out), 17 D6 (in), 18 D7 (in), 19 Q7 (out)
part B pins: 10 GND (power), 20 VCC (power)

## CD74HCT533E
designator U?
High Speed CMOS Logic Octal Transparent Inverting Latches with 3-State Outputs, N0020A, TUBE; Generic Part Number: CD74HCT533; Manufacturer: Texas Instruments; PartNumber: CD74HCT533E; VCC(Min)(V): 4.5; VCC(Max)(V): 5.5; ICC @ Nom Voltage(Max)(mA): 0.08; Input Type: TTL; Bits(#): 8; F @ Nom Voltage(Max)(Mhz): 25; Rating: Catalog; Technology Family: HCT; Voltage(Nom)(V): 5; Schmitt Trigger: No; Output Drive (IOL/IOH)(Max)(mA): 6/-6; Output Logic: Inverted; 3-State Output: Yes; tpd @ Nom Voltage(Max)(ns): 43; DatasheetVersion: SCHS187C; PackageReference: N0020A; Supplier 1: Digi-Key; Supplier Part Number 1: 296-2152-5-ND; Supplier 2: Farnell; Supplier Part Number 2: 1740060; Supplier 3: Newark; Supplier Part Number 3: 50R5299; Supplier 4: Mouser; Supplier Part Number 4: 595-CD74HCT533E; Output Type: CMOS; Operating Temperature Range(C): -55 to 125; Code_JEDEC: MS-001; ComponentLink1Description: Manufacturer URL; ComponentLink1URL: http://www.ti.com/; ComponentLink2Description: Datasheet; ComponentLink2URL: http://www.ti.com/lit/ds/symlink/cd74hct533.pdf; ComponentLink3Description: Package Specification; ComponentLink3URL: http://www.ti.com/lit/ml/mpdi002c/mpdi002c.pdf
footprint N0020A (DIP, 20-Leads, Body 26.9x6.6mm, Pitch 2.54mm)
pins: 1 ~{OE} (in), 2 ~{Q0} (hiz), 3 D0 (in), 4 D1 (in), 5 ~{Q1} (hiz), 6 ~{Q2} (hiz), 7 D2 (in), 8 D3 (in), 9 ~{Q3} (hiz), 10 GND (power), 11 ~{LE} (in), 12 ~{Q4} (hiz), 13 D4 (in), 14 D5 (in), 15 ~{Q5} (hiz), 16 ~{Q6} (hiz), 17 D6 (in), 18 D7 (in), 19 ~{Q7} (hiz), 20 VCC (power)

## CD74HCT534E
designator U?
High Speed CMOS Logic Octal Positive-Edge-Triggered D-Type Inverting Flip-Flops with 3-State Outputs, N0020A, TUBE; Generic Part Number: CD74HCT534; Manufacturer: Texas Instruments; PartNumber: CD74HCT534E; VCC(Min)(V): 4.5; VCC(Max)(V): 5.5; ICC @ Nom Voltage(Max)(mA): 0.08; Input Type: TTL; Bits(#): 8; F @ Nom Voltage(Max)(Mhz): 25; Rating: Catalog; Technology Family: HCT; Voltage(Nom)(V): 5; Schmitt Trigger: No; Output Drive (IOL/IOH)(Max)(mA): 6/-6; Output Logic: Inverted; 3-State Output: Yes; tpd @ Nom Voltage(Max)(ns): 44; DatasheetVersion: SCHS188C; PackageReference: N0020A; Supplier 1: Digi-Key; Supplier Part Number 1: 296-2153-5-ND; Supplier 2: Farnell; Supplier Part Number 2: 1753531; Supplier 3: Newark; Supplier Part Number 3: 67T1075; Supplier 4: Mouser; Supplier Part Number 4: 595-CD74HCT534E; Output Type: CMOS; Operating Temperature Range(C): -55 to 125; Code_JEDEC: MS-001; ComponentLink1Description: Manufacturer URL; ComponentLink1URL: http://www.ti.com/; ComponentLink2Description: Datasheet; ComponentLink2URL: http://www.ti.com/lit/ds/symlink/cd74hct534.pdf; ComponentLink3Description: Package Specification; ComponentLink3URL: http://www.ti.com/lit/ml/mpdi002c/mpdi002c.pdf
footprint N0020A (DIP, 20-Leads, Body 26.9x6.6mm, Pitch 2.54mm)
part A pins: 1 OE (in), 2 Q0 (hiz), 3 D0 (in), 4 D1 (in), 5 Q1 (hiz), 6 Q2 (hiz), 7 D2 (in), 8 D3 (in), 9 Q3 (hiz), 11 CP (in), 12 Q4 (hiz), 13 D4 (in), 14 D5 (in), 15 Q5 (hiz), 16 Q7 (hiz), 17 D6 (in), 18 D7 (in), 19 Q7 (hiz)
part B pins: 10 GND (power), 20 VCC (power)

## CD74HCT563E
designator U?
High Speed CMOS Logic Octal Transparent Inverting Latches with 3-State Outputs, N0020A, TUBE; Generic Part Number: CD74HCT563; Manufacturer: Texas Instruments; PartNumber: CD74HCT563E; VCC(Min)(V): 4.5; VCC(Max)(V): 5.5; ICC @ Nom Voltage(Max)(mA): 0.08; Input Type: TTL; Bits(#): 8; F @ Nom Voltage(Max)(Mhz): 25; Rating: Catalog; Technology Family: HCT; Voltage(Nom)(V): 5; Schmitt Trigger: No; Output Drive (IOL/IOH)(Max)(mA): 6/-6; Output Logic: Inverted; 3-State Output: Yes; tpd @ Nom Voltage(Max)(ns): 40; DatasheetVersion: SCHS187C; PackageReference: N0020A; Supplier 1: Digi-Key; Supplier Part Number 1: 296-33161-5-ND; Supplier 2: Farnell; Supplier Part Number 2: 1740061; Supplier 3: Mouser; Supplier Part Number 3: 595-CD74HCT563E; Output Type: CMOS; Operating Temperature Range(C): -55 to 125; Code_JEDEC: MS-001; ComponentLink1Description: Manufacturer URL; ComponentLink1URL: http://www.ti.com/; ComponentLink2Description: Datasheet; ComponentLink2URL: http://www.ti.com/lit/ds/symlink/cd74hct563.pdf; ComponentLink3Description: Package Specification; ComponentLink3URL: http://www.ti.com/lit/ml/mpdi002c/mpdi002c.pdf
footprint N0020A (DIP, 20-Leads, Body 26.9x6.6mm, Pitch 2.54mm)
pins: 1 ~{OE} (in), 2 D0 (in), 3 D1 (in), 4 D2 (in), 5 D3 (in), 6 D4 (in), 7 D5 (in), 8 D6 (in), 9 D7 (in), 10 GND (power), 11 ~{LE} (in), 12 ~{Q7} (hiz), 13 ~{Q6} (hiz), 14 ~{Q5} (hiz), 15 ~{Q4} (hiz), 16 ~{Q3} (hiz), 17 ~{Q2} (hiz), 18 ~{Q1} (hiz), 19 ~{Q0} (hiz), 20 VCC (power)

## CD74HCT563M
designator U?
High Speed CMOS Logic Octal Transparent Inverting Latches with 3-State Outputs, DW0020A, TUBE; Generic Part Number: CD74HCT563; Manufacturer: Texas Instruments; PartNumber: CD74HCT563M; VCC(Min)(V): 4.5; VCC(Max)(V): 5.5; ICC @ Nom Voltage(Max)(mA): 0.08; Input Type: TTL; Bits(#): 8; F @ Nom Voltage(Max)(Mhz): 25; Rating: Catalog; Technology Family: HCT; Voltage(Nom)(V): 5; Schmitt Trigger: No; Output Drive (IOL/IOH)(Max)(mA): 6/-6; Output Logic: Inverted; 3-State Output: Yes; tpd @ Nom Voltage(Max)(ns): 40; DatasheetVersion: SCHS187C; PackageReference: DW0020A; Supplier 1: Digi-Key; Supplier Part Number 1: 296-9289-5-ND; Supplier 2: Farnell; Supplier Part Number 2: 8389136; Supplier 3: Newark; Supplier Part Number 3: 38K0237; Supplier 4: Mouser; Supplier Part Number 4: 595-CD74HCT563M; Output Type: CMOS; Operating Temperature Range(C): -55 to 125; Code_JEDEC: MS-013; ComponentLink1Description: Manufacturer URL; ComponentLink1URL: http://www.ti.com/; ComponentLink2Description: Datasheet; ComponentLink2URL: http://www.ti.com/lit/ds/symlink/cd74hct563.pdf; ComponentLink3Description: Package Specification; ComponentLink3URL: http://www.ti.com/lit/ml/mpds173a/mpds173a.pdf
footprint DW0020A_N (SOIC, 20-Leads, Body 13x7.6mm, Pitch 1.27mm, IPC Medium Density)
footprint DW0020A_M (SOIC, 20-Leads, Body 13x7.6mm, Pitch 1.27mm, IPC Low Density)
footprint DW0020A_L (SOIC, 20-Leads, Body 13x7.6mm, Pitch 1.27mm, IPC High Density)
pins: 1 ~{OE} (in), 2 D0 (in), 3 D1 (in), 4 D2 (in), 5 D3 (in), 6 D4 (in), 7 D5 (in), 8 D6 (in), 9 D7 (in), 10 GND (power), 11 LE (in), 12 ~{Q7} (hiz), 13 ~{Q6} (hiz), 14 ~{Q5} (hiz), 15 ~{Q4} (hiz), 16 ~{Q3} (hiz), 17 ~{Q2} (hiz), 18 ~{Q1} (hiz), 19 ~{Q0} (hiz), 20 VCC (power)

## CD74HCT564E
designator U?
High Speed CMOS Logic Octal Positive-Edge-Triggered D-Type Inverting Flip-Flops with 3-State Outputs, N0020A, TUBE; Generic Part Number: CD74HCT564; Manufacturer: Texas Instruments; PartNumber: CD74HCT564E; VCC(Min)(V): 4.5; VCC(Max)(V): 5.5; ICC @ Nom Voltage(Max)(mA): 0.08; Input Type: TTL; Bits(#): 8; F @ Nom Voltage(Max)(Mhz): 25; Rating: Catalog; Technology Family: HCT; Voltage(Nom)(V): 5; Schmitt Trigger: No; Output Drive (IOL/IOH)(Max)(mA): 6/-6; Output Logic: Inverted; 3-State Output: Yes; tpd @ Nom Voltage(Max)(ns): 44; DatasheetVersion: SCHS188C; PackageReference: N0020A; Supplier 1: Digi-Key; Supplier Part Number 1: 296-2154-5-ND; Supplier 2: Farnell; Supplier Part Number 2: 1739854; Supplier 3: Mouser; Supplier Part Number 3: 595-CD74HCT564E; Output Type: CMOS; Operating Temperature Range(C): -55 to 125; Code_JEDEC: MS-001; ComponentLink1Description: Manufacturer URL; ComponentLink1URL: http://www.ti.com/; ComponentLink2Description: Datasheet; ComponentLink2URL: http://www.ti.com/lit/ds/symlink/cd74hct564.pdf; ComponentLink3Description: Package Specification; ComponentLink3URL: http://www.ti.com/lit/ml/mpdi002c/mpdi002c.pdf
footprint N0020A (DIP, 20-Leads, Body 26.9x6.6mm, Pitch 2.54mm)
part A pins: 1 OE (in), 2 D0 (in), 3 D1 (in), 4 D2 (in), 5 D3 (in), 6 D4 (in), 7 D5 (in), 8 D6 (in), 9 D7 (in), 11 CP (in), 12 Q7 (hiz), 13 Q6 (hiz), 14 Q5 (hiz), 15 Q4 (hiz), 16 Q3 (hiz), 17 Q2 (hiz), 18 Q1 (hiz), 19 Q0 (hiz)
part B pins: 10 GND (power), 20 VCC (power)

## CD74HCT564M
designator U?
High Speed CMOS Logic Octal Positive-Edge-Triggered D-Type Inverting Flip-Flops with 3-State Outputs, DW0020A, TUBE; Generic Part Number: CD74HCT564; Manufacturer: Texas Instruments; PartNumber: CD74HCT564M; VCC(Min)(V): 4.5; VCC(Max)(V): 5.5; ICC @ Nom Voltage(Max)(mA): 0.08; Input Type: TTL; Bits(#): 8; F @ Nom Voltage(Max)(Mhz): 25; Rating: Catalog; Technology Family: HCT; Voltage(Nom)(V): 5; Schmitt Trigger: No; Output Drive (IOL/IOH)(Max)(mA): 6/-6; Output Logic: Inverted; 3-State Output: Yes; tpd @ Nom Voltage(Max)(ns): 44; DatasheetVersion: SCHS188C; PackageReference: DW0020A; Supplier 1: Digi-Key; Supplier Part Number 1: 296-9290-5-ND; Supplier 2: Mouser; Supplier Part Number 2: 595-CD74HCT564M; Output Type: CMOS; Operating Temperature Range(C): -55 to 125; Code_JEDEC: MS-013; ComponentLink1Description: Manufacturer URL; ComponentLink1URL: http://www.ti.com/; ComponentLink2Description: Datasheet; ComponentLink2URL: http://www.ti.com/lit/ds/symlink/cd74hct564.pdf; ComponentLink3Description: Package Specification; ComponentLink3URL: http://www.ti.com/lit/ml/mpds173a/mpds173a.pdf
footprint DW0020A_N (SOIC, 20-Leads, Body 13x7.6mm, Pitch 1.27mm, IPC Medium Density)
footprint DW0020A_M (SOIC, 20-Leads, Body 13x7.6mm, Pitch 1.27mm, IPC Low Density)
footprint DW0020A_L (SOIC, 20-Leads, Body 13x7.6mm, Pitch 1.27mm, IPC High Density)
part A pins: 1 OE (in), 2 D0 (in), 3 D1 (in), 4 D2 (in), 5 D3 (in), 6 D4 (in), 7 D5 (in), 8 D6 (in), 9 D7 (in), 11 CP (in), 12 Q7 (hiz), 13 Q6 (hiz), 14 Q5 (hiz), 15 Q4 (hiz), 16 Q3 (hiz), 17 Q2 (hiz), 18 Q1 (hiz), 19 Q0 (hiz)
part B pins: 10 GND (power), 20 VCC (power)

## CD74HCT573DBR
designator U?
High Speed CMOS Logic Octal Transparent Latches with 3-State Outputs, DB0020A, LARGE T&R; Generic Part Number: CD74HCT573; Manufacturer: Texas Instruments; PartNumber: CD74HCT573DBR; VCC(Min)(V): 4.5; VCC(Max)(V): 5.5; ICC @ Nom Voltage(Max)(mA): 0.08; Input Type: TTL; Bits(#): 8; F @ Nom Voltage(Max)(Mhz): 25; Rating: Catalog; Technology Family: HCT; Voltage(Nom)(V): 5; Schmitt Trigger: No; Output Drive (IOL/IOH)(Max)(mA): 6/-6; Output Logic: Inverted; 3-State Output: Yes; tpd @ Nom Voltage(Max)(ns): 40; DatasheetVersion: SCLS455C; PackageReference: DB0020A; Supplier 1: Digi-Key; Supplier Part Number 1: 296-17125-2-ND; Supplier 2: Digi-Key; Supplier Part Number 2: 296-17125-1-ND; Supplier 3: Digi-Key; Supplier Part Number 3: 296-17125-6-ND; Supplier 4: Mouser; Supplier Part Number 4: 595-CD74HCT573DBR; Output Type: CMOS; Operating Temperature Range(C): -55 to 125; Code_JEDEC: MO-150; ComponentLink1Description: Manufacturer URL; ComponentLink1URL: http://www.ti.com/; ComponentLink2Description: Datasheet; ComponentLink2URL: http://www.ti.com/lit/ds/symlink/cd74hct573.pdf; ComponentLink3Description: Package Specification; ComponentLink3URL: http://www.ti.com/lit/ml/mpds508/mpds508.pdf
footprint DB0020A_N (SOP, 20-Leads, Body 5.6x7.5mm, Pitch 0.65mm, IPC Medium Density)
footprint DB0020A_M (SOP, 20-Leads, Body 5.6x7.5mm, Pitch 0.65mm, IPC Low Density)
footprint DB0020A_L (SOP, 20-Leads, Body 5.6x7.5mm, Pitch 0.65mm, IPC High Density)
pins: 1 ~{OE} (in), 2 1D (in), 3 2D (in), 4 3D (in), 5 4D (in), 6 5D (in), 7 6D (in), 8 7D (in), 9 8D (in), 10 GND (power), 11 LE (in), 12 8Q (hiz), 13 7Q (hiz), 14 6Q (hiz), 15 5Q (hiz), 16 4Q (hiz), 17 3Q (hiz), 18 2Q (hiz), 19 1Q (hiz), 20 VCC (power)

## CD74HCT573E
designator U?
High Speed CMOS Logic Octal Transparent Latches with 3-State Outputs, N0020A, TUBE; Generic Part Number: CD74HCT573; Manufacturer: Texas Instruments; PartNumber: CD74HCT573E; VCC(Min)(V): 4.5; VCC(Max)(V): 5.5; ICC @ Nom Voltage(Max)(mA): 0.08; Input Type: TTL; Bits(#): 8; F @ Nom Voltage(Max)(Mhz): 25; Rating: Catalog; Technology Family: HCT; Voltage(Nom)(V): 5; Schmitt Trigger: No; Output Drive (IOL/IOH)(Max)(mA): 6/-6; Output Logic: Inverted; 3-State Output: Yes; tpd @ Nom Voltage(Max)(ns): 40; DatasheetVersion: SCLS455C; PackageReference: N0020A; Supplier 1: Digi-Key; Supplier Part Number 1: 296-2128-5-ND; Supplier 2: Farnell; Supplier Part Number 2: 1105994; Supplier 3: Newark; Supplier Part Number 3: 06F2994; Supplier 4: Mouser; Supplier Part Number 4: 595-CD74HCT573E; Output Type: CMOS; Operating Temperature Range(C): -55 to 125; Code_JEDEC: MS-001; ComponentLink1Description: Manufacturer URL; ComponentLink1URL: http://www.ti.com/; ComponentLink2Description: Datasheet; ComponentLink2URL: http://www.ti.com/lit/ds/symlink/cd74hct573.pdf; ComponentLink3Description: Package Specification; ComponentLink3URL: http://www.ti.com/lit/ml/mpdi002c/mpdi002c.pdf
footprint N0020A (DIP, 20-Leads, Body 26.9x6.6mm, Pitch 2.54mm)
pins: 1 ~{OE} (in), 2 1D (in), 3 2D (in), 4 3D (in), 5 4D (in), 6 5D (in), 7 6D (in), 8 7D (in), 9 8D (in), 10 GND (power), 11 LE (in), 12 8Q (hiz), 13 7Q (hiz), 14 6Q (hiz), 15 5Q (hiz), 16 4Q (hiz), 17 3Q (hiz), 18 2Q (hiz), 19 1Q (hiz), 20 VCC (power)

## CD74HCT573M
designator U?
High Speed CMOS Logic Octal Transparent Latches with 3-State Outputs, DW0020A, TUBE; Generic Part Number: CD74HCT573; Manufacturer: Texas Instruments; PartNumber: CD74HCT573M; VCC(Min)(V): 4.5; VCC(Max)(V): 5.5; ICC @ Nom Voltage(Max)(mA): 0.08; Input Type: TTL; Bits(#): 8; F @ Nom Voltage(Max)(Mhz): 25; Rating: Catalog; Technology Family: HCT; Voltage(Nom)(V): 5; Schmitt Trigger: No; Output Drive (IOL/IOH)(Max)(mA): 6/-6; Output Logic: Inverted; 3-State Output: Yes; tpd @ Nom Voltage(Max)(ns): 40; DatasheetVersion: SCLS455C; PackageReference: DW0020A; Supplier 1: Digi-Key; Supplier Part Number 1: 296-26032-5-ND; Supplier 2: Farnell; Supplier Part Number 2: 1103145; Supplier 3: Newark; Supplier Part Number 3: 25M8616; Supplier 4: Mouser; Supplier Part Number 4: 595-CD74HCT573M; Output Type: CMOS; Operating Temperature Range(C): -55 to 125; Code_JEDEC: MS-013; ComponentLink1Description: Manufacturer URL; ComponentLink1URL: http://www.ti.com/; ComponentLink2Description: Datasheet; ComponentLink2URL: http://www.ti.com/lit/ds/symlink/cd74hct573.pdf; ComponentLink3Description: Package Specification; ComponentLink3URL: http://www.ti.com/lit/ml/mpds173a/mpds173a.pdf
footprint DW0020A_N (SOIC, 20-Leads, Body 13x7.6mm, Pitch 1.27mm, IPC Medium Density)
footprint DW0020A_M (SOIC, 20-Leads, Body 13x7.6mm, Pitch 1.27mm, IPC Low Density)
footprint DW0020A_L (SOIC, 20-Leads, Body 13x7.6mm, Pitch 1.27mm, IPC High Density)
pins: 1 ~{OE} (in), 2 1D (in), 3 2D (in), 4 3D (in), 5 4D (in), 6 5D (in), 7 6D (in), 8 7D (in), 9 8D (in), 10 GND (power), 11 LE (in), 12 8Q (hiz), 13 7Q (hiz), 14 6Q (hiz), 15 5Q (hiz), 16 4Q (hiz), 17 3Q (hiz), 18 2Q (hiz), 19 1Q (hiz), 20 VCC (power)

## CD74HCT573M96
designator U?
High Speed CMOS Logic Octal Transparent Latches with 3-State Outputs, DW0020A, LARGE T&R; Generic Part Number: CD74HCT573; Manufacturer: Texas Instruments; PartNumber: CD74HCT573M96; VCC(Min)(V): 4.5; VCC(Max)(V): 5.5; ICC @ Nom Voltage(Max)(mA): 0.08; Input Type: TTL; Bits(#): 8; F @ Nom Voltage(Max)(Mhz): 25; Rating: Catalog; Technology Family: HCT; Voltage(Nom)(V): 5; Schmitt Trigger: No; Output Drive (IOL/IOH)(Max)(mA): 6/-6; Output Logic: Inverted; 3-State Output: Yes; tpd @ Nom Voltage(Max)(ns): 40; DatasheetVersion: SCLS455C; PackageReference: DW0020A; Supplier 1: Digi-Key; Supplier Part Number 1: 296-9291-2-ND; Supplier 2: Digi-Key; Supplier Part Number 2: 296-9291-1-ND; Supplier 3: Digi-Key; Supplier Part Number 3: 296-9291-6-ND; Supplier 4: Mouser; Supplier Part Number 4: 595-CD74HCT573M96; Output Type: CMOS; Operating Temperature Range(C): -55 to 125; Code_JEDEC: MS-013; ComponentLink1Description: Manufacturer URL; ComponentLink1URL: http://www.ti.com/; ComponentLink2Description: Datasheet; ComponentLink2URL: http://www.ti.com/lit/ds/symlink/cd74hct573.pdf; ComponentLink3Description: Package Specification; ComponentLink3URL: http://www.ti.com/lit/ml/mpds173a/mpds173a.pdf
footprint DW0020A_N (SOIC, 20-Leads, Body 13x7.6mm, Pitch 1.27mm, IPC Medium Density)
footprint DW0020A_M (SOIC, 20-Leads, Body 13x7.6mm, Pitch 1.27mm, IPC Low Density)
footprint DW0020A_L (SOIC, 20-Leads, Body 13x7.6mm, Pitch 1.27mm, IPC High Density)
pins: 1 ~{OE} (in), 2 1D (in), 3 2D (in), 4 3D (in), 5 4D (in), 6 5D (in), 7 6D (in), 8 7D (in), 9 8D (in), 10 GND (power), 11 LE (in), 12 8Q (hiz), 13 7Q (hiz), 14 6Q (hiz), 15 5Q (hiz), 16 4Q (hiz), 17 3Q (hiz), 18 2Q (hiz), 19 1Q (hiz), 20 VCC (power)